# Altium footprint library COILCRAFT_GA3460-BL.PcbLib: 1 footprints
Each footprint in its own frame and in the unit in brackets; x right, y up, seen from the top. Pads: shape width x height; smd on the part's side, far side on the other; paste and mask are expansions set on the pad; w line width, h text height; cw(c..) or ccw(c..) is an arc to the next point about the centre after c.
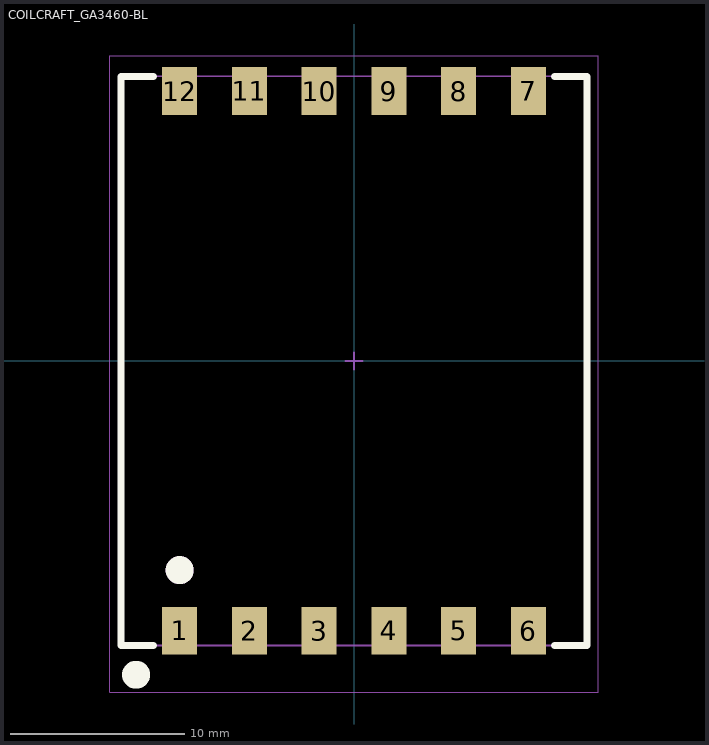
[diagram p0: the footprint, top view; thin cyan lines are the x and y axes]

## COILCRAFT_GA3460-BL [mm]
height 14
pads (12):
  rect 2x2.75 smd: 1(-10,-15.475) 2(-6,-15.475) 3(-2,-15.475) 4(2,-15.475) 5(6,-15.475) 6(10,-15.475) 7(10,15.475) 8(6,15.475) 9(2,15.475) 10(-2,15.475) 11(-6,15.475) 12(-10,15.475)
Top Overlay:
  circle w1.2: c-12.5,-18 r0.2
  circle w1.2: c-10,-12 r0.2
  lines w0.4: -11.5,-16.325 -13.375,-16.325 -13.375,16.325 -11.5,16.325 ; 11.5,-16.325 13.375,-16.325 13.375,16.325 11.5,16.325
Mechanical 13 (Mech13):
  circle w1.2: c-10,-12 r0.2
  lines w0.1: -13.375,-16.325 -13.375,16.325 13.375,16.325 13.375,-16.325 -13.375,-16.325
Mechanical 15:
  lines w0.05: -14,-19 14,-19 14,17.5 -14,17.5 -14,-19
  lines w0.1: -0.5,0 0.5,0 ; 0,-0.5 0,0.5
3D body "COILCRAFT_GA3460-BL.step": height 14.01, standoff 0.01, extent -13.385,-16.33 13.385,16.33